# Altium footprint library MC34063.PcbLib: 1 footprints
Each footprint in its own frame and in the unit in brackets; x right, y up, seen from the top. Pads: shape width x height; smd on the part's side, far side on the other; paste and mask are expansions set on the pad; w line width, h text height; cw(c..) or ccw(c..) is an arc to the next point about the centre after c.
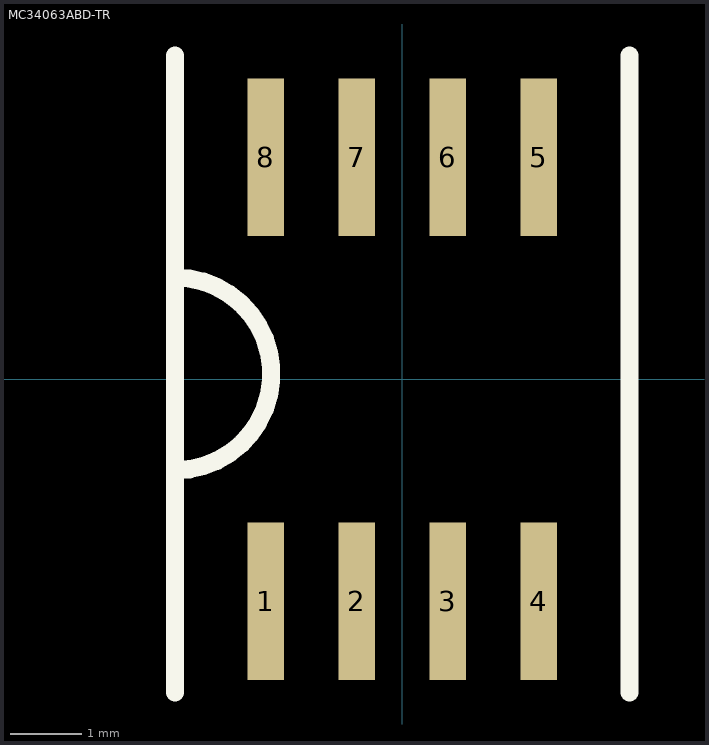
[diagram p0: the footprint, top view; thin cyan lines are the x and y axes]

## MC34063ABD-TR [mm]
pads (8):
  rect 0.51x2.2 smd: 1(-1.905,-3.1) 2(-0.635,-3.1) 3(0.635,-3.1) 4(1.905,-3.1) 5(1.905,3.1) 6(0.635,3.1) 7(-0.635,3.1) 8(-1.905,3.1)
Top Overlay:
  lines w0.254: -3.175,-4.37 -3.175,4.52 ; -3.175,-1.27 ccw(c-3.175,0.077) -3.175,1.424 ; 3.175,-4.37 3.175,4.52